# EAGLE library part NRF51822-02 (library nRF51-02)
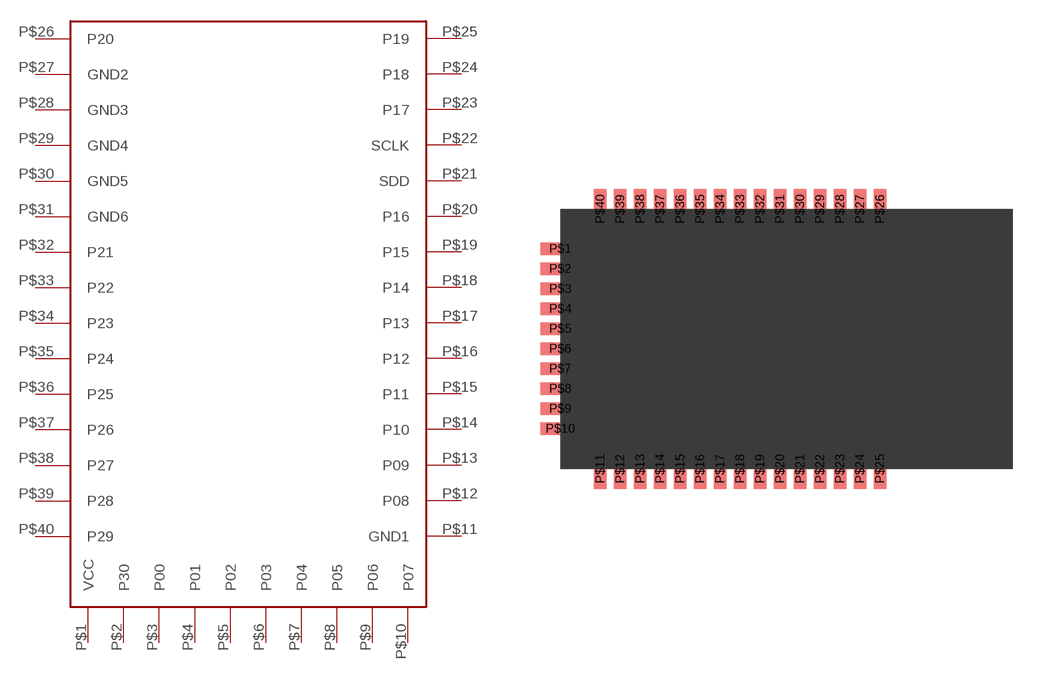
[diagram p0: symbol with the pads of WT51822-S2; footprint WT51822-S2]

Designator prefix -

## NRF51822-02  [WT51822-S2]
P$1  VCC
P$2  P30
P$3  P00
P$4  P01
P$5  P02
P$6  P03
P$7  P04
P$8  P05
P$9  P06
P$10  P07
P$11  GND1
P$12  P08
P$13  P09
P$14  P10
P$15  P11
P$16  P12
P$17  P13
P$18  P14
P$19  P15
P$20  P16
P$21  SDD
P$22  SCLK
P$23  P17
P$24  P18
P$25  P19
P$26  P20
P$27  GND2
P$28  GND3
P$29  GND4
P$30  GND5
P$31  GND6
P$32  P21
P$33  P22
P$34  P23
P$35  P24
P$36  P25
P$37  P26
P$38  P27
P$39  P28
P$40  P29

## Footprint WT51822-S2 (pad centres in mm)
smd 2.54 x 0.81: P$1 0,-2.54; P$2 0,-3.81; P$3 0,-5.08; P$4 0,-6.35; P$5 0,-7.62; P$6 0,-8.89; P$7 0,-10.16; P$8 0,-11.43; P$9 0,-12.7; P$10 0,-13.97
smd 0.81 x 2.54: P$11 2.54,-16.51; P$12 3.81,-16.51; P$13 5.08,-16.51; P$14 6.35,-16.51; P$15 7.62,-16.51; P$16 8.89,-16.51; P$17 10.16,-16.51; P$18 11.43,-16.51; P$19 12.7,-16.51; P$20 13.97,-16.51; P$21 15.24,-16.51; P$22 16.51,-16.51; P$23 17.78,-16.51; P$24 19.05,-16.51; P$25 20.32,-16.51; P$26 20.32,0; P$27 19.05,0; P$28 17.78,0; P$29 16.51,0; P$30 15.24,0; P$31 13.97,0; P$32 12.7,0; P$33 11.43,0; P$34 10.16,0; P$35 8.89,0; P$36 7.62,0; P$37 6.35,0; P$38 5.08,0; P$39 3.81,0; P$40 2.54,0